# Altium schematic symbol library F930J476MAA.SchLib: 1 symbol
Pins are listed as number, name and electrical type; pins without a type are passive.

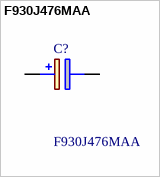
[diagram p0: symbol F930J476MAA]

## F930J476MAA
designator C?
AVX - F930J476MAA - Surface Mount Tantalum Capacitor, 47 F, 6.3 V, 1206 [3216 Metric], F93 Series, +/- 20%, -55 C; Manufacturer_Name: Kyocera AVX; Geometry.Height: 1.8mm; Manufacturer_Part_Number: F930J476MAA; Mouser Part Number: 647-F930J476MAA; Mouser Price/Stock: https://www.mouser.com/Search/Refine.aspx?Keyword=647-F930J476MAA; Arrow Part Number: *; Arrow Price/Stock: *; Datasheet Link: http://datasheets.avx.com/F93.pdf
footprint CAPPM3216X180N
pins: 1 +, 2 -